# Altium footprint library ESP8266-1.PcbLib: 14 footprints
Each footprint in its own frame and in the unit in brackets; x right, y up, seen from the top. Pads: shape width x height; smd on the part's side, far side on the other; paste and mask are expansions set on the pad; w line width, h text height; cw(c..) or ccw(c..) is an arc to the next point about the centre after c.
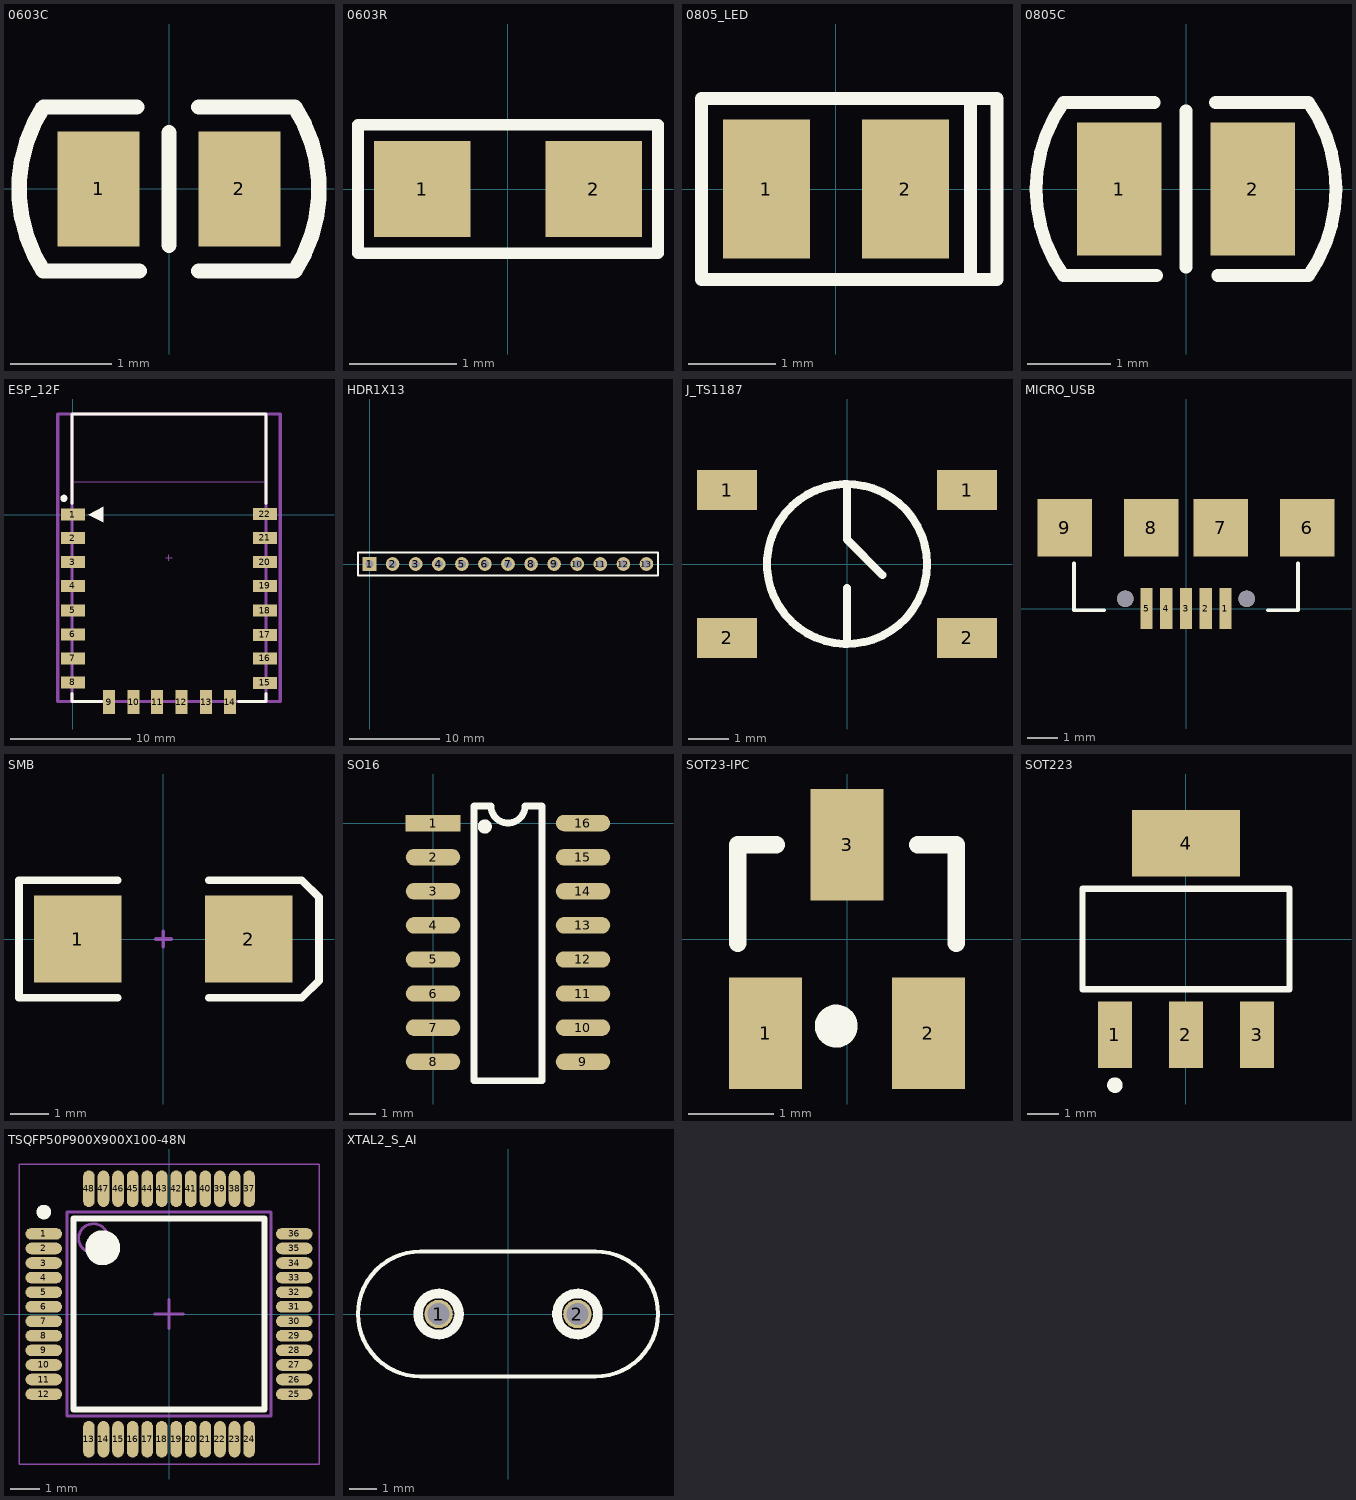
[diagram p0: the footprints below, top view; thin cyan lines are the x and y axes]

## 0603C [mil]
height 31.5
pads (2):
  rect 32x45 smd: 1(-27.5,0) 2(27.5,0)
Top Overlay:
  lines w6: -12.61,32 -49,32 ccw(c-0.01,0) -49,-32 -11.61,-32 ; 0,-22 0,22 ; 11.62,-32 49,-32 ccw(c-0.01,0) 49,32 11.62,32
3D body "0603c.stp": height 32.45, standoff -1.01, extent -31.5,-16.73 31.5,16.73

## 0603R [mil]
height 15.75
pads (2):
  rect 35.43x35.43 smd: 1(-31.5,0) 2(31.5,0)
Top Overlay:
  lines w4.33: -55.12,-23.62 -55.12,23.62 55.12,23.62 55.12,-23.62 -55.12,-23.62
3D body "R0603.STEP": height 17.72, standoff 0, extent -31.49,-15.74 31.5,15.75

## 0805_LED [mm]
pads (2):
  rect 1x1.6 smd: 1(-0.8,0) 2(0.8,0)
Top Overlay:
  lines w0.152: 1.549,-1.041 1.549,1.041 ; -1.549,-1.041 1.854,-1.041 1.854,1.041 -1.549,1.041 -1.549,-1.041
3D body "0805led.stp": height 1.1, standoff 0, extent -1,-0.65 1,0.65

## 0805C [mil]
height 39.37
pads (2):
  rect 40x63 smd: 1(-31.5,0) 2(31.5,0)
Top Overlay:
  lines w6: -15,41 -58,41 ccw(c0,0) -58,-41 -14,-41 ; 0,-37 0,37 ; 14,41 58,41 cw(c0,0) 58,-41 15,-41
3D body "0805c.stp": height 49.21, standoff 0, extent -39.36,-24.6 39.38,24.61

## ESP_12F [mm]
pads (22):
  rect 2x1 smd: 1(0,0) 2(0,-1.97) 3(0,-3.97) 4(0,-5.94) 5(0,-7.98) 6(0,-9.99) 7(0,-11.98) 8(0,-13.99) 15(16,-14.03) 16(16,-11.99) 17(16,-10.03) 18(16,-8.01) 19(16,-5.95) 20(16,-3.97) 21(16,-1.95) 22(16,0.03)
  rect 1x2 smd: 9(3.021,-15.621) 10(5.061,-15.621) 11(7.021,-15.621) 12(9.041,-15.621) 13(11.101,-15.621) 14(13.081,-15.621)
Top Overlay:
  circle w0.3: c-0.762,1.356 r0.15
  region: 1.27,0 2.54,-0.635 2.54,0.635
  lines w0.254: -0.084,-14.916 -0.084,-15.568 2.413,-15.568 ; -0.084,0.916 -0.084,8.371 16.084,8.371 16.084,0.916 ; 13.79,-15.568 16.084,-15.568 16.084,-14.916
Mechanical 13:
  lines w0.051: -0.127,2.727 -0.127,8.382 16.129,8.382 16.129,2.727 -0.127,2.727
  lines w0.254: -0.084,-15.568 16.084,-15.568 16.084,8.371 -0.084,8.371 -0.084,-15.568
Mechanical 15:
  lines w0.1: 7.746,-3.598 8.254,-3.598 ; 8,-3.852 8,-3.344
  lines w0.254: -1.27,-15.568 -1.27,8.371 17.272,8.371 17.272,-15.568 -1.27,-15.568

## HDR1X13 [mm] "Connector; Header; 13 Posit"
pads (13):
  rect 1.5x1.5 hole 0.9: 1(0,0)
  round 1.5 hole 0.9: 2(2.54,0) 3(5.08,0) 4(7.62,0) 5(10.16,0) 6(12.7,0) 7(15.24,0) 8(17.78,0) 9(20.32,0) 10(22.86,0) 11(25.4,0) 12(27.94,0) 13(30.48,0)
Top Overlay:
  lines w0.2: -1.27,-1.27 -1.27,1.27 0.635,1.27 31.75,1.27 31.75,-1.27 -1.27,-1.27

## J_TS1187 [mm]
pads (4):
  rect 1.5x1 smd: 1(-3,1.85) 1(3,1.85) 2(-3,-1.85) 2(3,-1.85)
Top Overlay:
  circle w0.2: c0,0 r2
  lines w0.2: 0,-2 0,-0.6 ; 0,2 0,0.61 0.889,-0.279
3D body "ts-1187.stp": height 1.5, standoff 0, extent -3.5,-2.35 3.5,2.35

## MICRO_USB [mm]
pads (11):
  rect 0.4x1.35 smd: 1(1.3,0) 2(0.65,0) 3(0,0) 4(-0.65,0) 5(-1.3,0)
  rect 1.8x1.9 smd: 6(4,2.675) 7(1.15,2.675) 8(-1.15,2.675) 9(-4,2.675)
  round 0.55 hole 0.55: ""(-2,0.325) ""(2,0.325)
Top Overlay:
  lines w0.127: -3.7,1.5 -3.7,-0.05 -2.7,-0.05 ; 2.7,-0.05 3.7,-0.05 3.7,1.5
3D body "usb_micro.stp": height 2.65, standoff -0.3, extent -4.05,-0.275 4.05,5.555

## SMB [mm] "DO-214-AA/SMB; 2 C-Bend Leads; Body 5.3 x 3.6 mm, inc. leads (L"
height 2.54
pads (2):
  rect 2.3x2.3 smd: 1(-2.25,0) 2(2.25,0)
Top Overlay:
  lines w0.2: -1.2,-1.55 -3.8,-1.55 -3.8,1.55 -1.2,1.55 ; 1.2,-1.55 3.65,-1.55 4.1,-1.1 4.1,1.1 3.65,1.55 1.2,1.55
Mechanical 1:
  lines w0.1: -0.2,0 0.2,0 ; 0,-0.2 0,0.2

## SO16 [mil]
pads (16):
  rect 80x24 smd: 1(0,0)
  oval 80x24 smd: 2(0,-50) 3(0,-100) 4(0,-150) 5(0,-200) 6(0,-250) 7(0,-300) 8(0,-350) 9(220,-350) 10(220,-300) 11(220,-250) 12(220,-200) 13(220,-150) 14(220,-100) 15(220,-50) 16(220,0)
Top Overlay:
  circle w10: c76,-5 r5.39
  lines w10: 60,-378 60,25 85,25 ccw(c110,25) 135,25 160,25 160,-378 60,-378

## SOT23-IPC [mm]
height 1.1
pads (3):
  rect 0.85x1.3 smd: 1(-0.95,-1.1) 2(0.95,-1.1) 3(0,1.1)
Top Overlay:
  circle w0.25: c-0.125,-1.016 r0.125
  lines w0.2: -1.275,-0.05 -1.275,1.1 -0.825,1.1 ; 0.825,1.1 1.275,1.1 1.275,-0.05

## SOT223 [mm] "SOT-223/SC-73; 4 Leads; Body 6.7 x 7.3 mm, inc. leads (LxW m"
height 1.8
pads (4):
  rect 1.1x2.15 smd: 1(-2.3,-3.1) 2(0,-3.1) 3(2.3,-3.1)
  rect 3.5x2.15 smd: 4(0,3.1)
Top Overlay:
  circle w0.25: c-2.3,-4.725 r0.125
  lines w0.2: -3.35,-1.625 3.35,-1.625 3.35,1.625 -3.35,1.625 -3.35,-1.625

## TSQFP50P900X900X100-48N [mm] "TSQFP, 48-Leads, Body 7.00x7.00mm, Pitch 0.50mm, IPC Medium Density"
height 1
pads (48):
  oval 1.25x0.4 smd: 1(-4.3,2.75) 2(-4.3,2.25) 3(-4.3,1.75) 4(-4.3,1.25) 5(-4.3,0.75) 6(-4.3,0.25) 7(-4.3,-0.25) 8(-4.3,-0.75) 9(-4.3,-1.25) 10(-4.3,-1.75) 11(-4.3,-2.25) 12(-4.3,-2.75) 25(4.3,-2.75) 26(4.3,-2.25) 27(4.3,-1.75) 28(4.3,-1.25) 29(4.3,-0.75) 30(4.3,-0.25) 31(4.3,0.25) 32(4.3,0.75) 33(4.3,1.25) 34(4.3,1.75) 35(4.3,2.25) 36(4.3,2.75)
  oval 0.4x1.25 smd: 13(-2.75,-4.3) 14(-2.25,-4.3) 15(-1.75,-4.3) 16(-1.25,-4.3) 17(-0.75,-4.3) 18(-0.25,-4.3) 19(0.25,-4.3) 20(0.75,-4.3) 21(1.25,-4.3) 22(1.75,-4.3) 23(2.25,-4.3) 24(2.75,-4.3) 37(2.75,4.3) 38(2.25,4.3) 39(1.75,4.3) 40(1.25,4.3) 41(0.75,4.3) 42(0.25,4.3) 43(-0.25,4.3) 44(-0.75,4.3) 45(-1.25,4.3) 46(-1.75,4.3) 47(-2.25,4.3) 48(-2.75,4.3)
Top Overlay:
  circle w0.6: c-2.275,2.275 r0.3
  circle w0.25: c-4.3,3.5 r0.125
  lines w0.2: -3.275,-3.275 3.275,-3.275 3.275,3.275 -3.275,3.275 -3.275,-3.275
Mechanical 13:
  circle w0.1: c-2.6,2.6 r0.5
  lines w0.1: -3.5,-3.5 3.5,-3.5 3.5,3.5 -3.5,3.5 -3.5,-3.5
Mechanical 15:
  lines w0.05: -5.15,-5.15 5.15,-5.15 5.15,5.15 -5.15,5.15 -5.15,-5.15
  lines w0.1: -0.5,0 0.5,0 ; 0,-0.5 0,0.5
3D body: height 1, standoff 0.15, extent -3.5,-3.5 3.5,3.5

## XTAL2_S_AI [mil] "6,12,13.56,14."
height 53.15
pads (2):
  round 41 / inner round 0 / far side round 70 hole 32 mask+0: 1(-100,0)
  round 41 / inner round 0 / far side round 70 hole 32: 2(100,0)
Top Overlay:
  circle w13.78: c100,0 r29.53
  circle w13.78: c-100,0 r29.53
  lines w6: -125.98,-90 cw(c-125.98,0) -125.98,90 125.98,90 cw(c125.98,0) 125.98,-90 -125.98,-90
3D body "xtal1.stp": height 125.98, standoff -118.11, extent -212.61,-90.16 212.59,90.94